# EAGLE library part TPD4S009 (library FaBo-ESD)
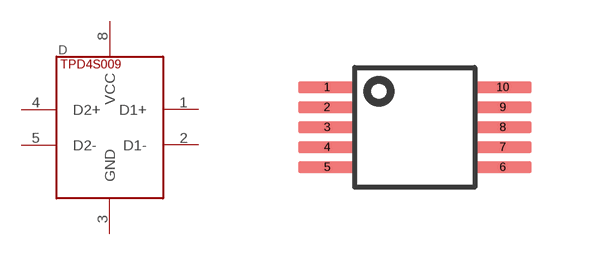
[diagram p0: symbol with the pads of VSSOP; footprint VSSOP]

Designator prefix D

## TPD4S009  [VSSOP]
1  D1+
2  D1-
3  GND
4  D2+
5  D2-
8  VCC

## Footprint VSSOP (pad centres in mm)
smd 1.45 x 0.3: 1 -2.2,1; 2 -2.2,0.5; 3 -2.2,0; 4 -2.2,-0.5; 5 -2.2,-1; 6 2.2,-1; 7 2.2,-0.5; 8 2.2,0; 9 2.2,0.5; 10 2.2,1